# EAGLE library part C-05254_ZX62D-B-5PA8 (library Akizuki)
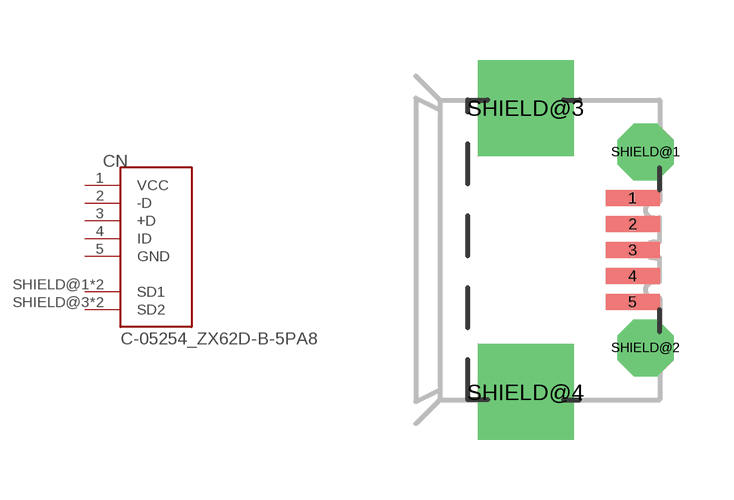
[diagram p36: symbol with the pads of ZX62D-B-5PA8; footprint ZX62D-B-5PA8]

Designator prefix CN

## C-05254_ZX62D-B-5PA8  [ZX62D-B-5PA8]
1  VCC
2  -D
3  +D
4  ID
5  GND
SHIELD@1  SD1
SHIELD@2  SD1
SHIELD@3  SD2
SHIELD@4  SD2

## Footprint ZX62D-B-5PA8 (pad centres in mm)
HRS (HIROSE) - ZX62D-B-5PA8 - CONNECTOR FARNELL: 2300438
smd 1.35 x 0.4: 1 2.675,1.3; 2 2.675,0.65; 3 2.675,0; 4 2.675,-0.65; 5 2.675,-1.3
drill 0.8 pad 1.422 octagon: SHIELD@1 3,2.45; SHIELD@2 3,-2.45
drill 1.6 square: SHIELD@3 0,3.556; SHIELD@4 0,-3.556